# Altium footprint library ADP1740ACPZ-1.8-R7.PcbLib: 1 footprints
Each footprint in its own frame and in the unit in brackets; x right, y up, seen from the top. Pads: shape width x height; smd on the part's side, far side on the other; paste and mask are expansions set on the pad; w line width, h text height; cw(c..) or ccw(c..) is an arc to the next point about the centre after c.
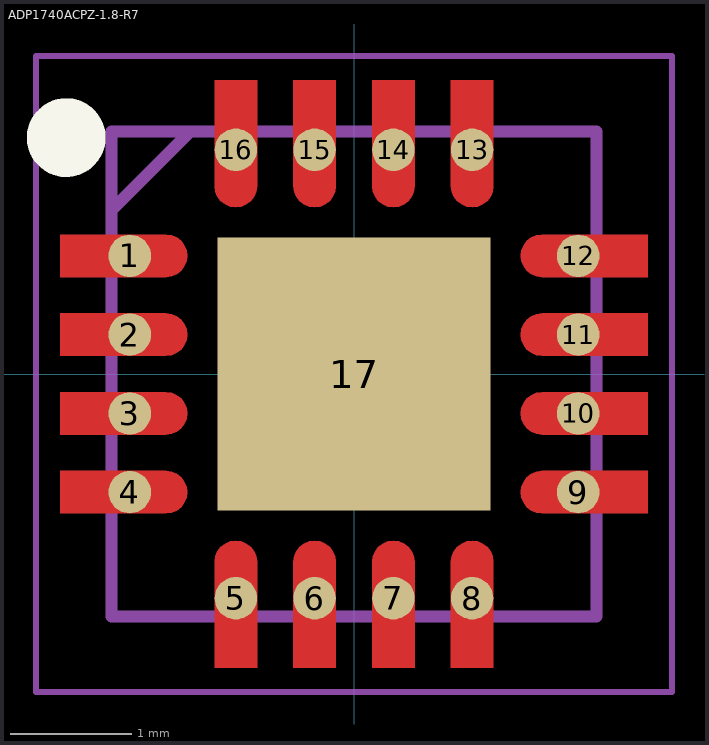
[diagram p0: the footprint, top view; thin cyan lines are the x and y axes]

## ADP1740ACPZ-1.8-R7 [mm]
pads (17):
  round 0.35 smd: 1(-1.85,0.975) 2(-1.85,0.325) 3(-1.85,-0.325) 4(-1.85,-0.975) 5(-0.975,-1.85) 6(-0.325,-1.85) 7(0.325,-1.85) 8(0.975,-1.85) 9(1.85,-0.975) 10(1.85,-0.325) 11(1.85,0.325) 12(1.85,0.975) 13(0.975,1.85) 14(0.325,1.85) 15(-0.325,1.85) 16(-0.975,1.85)
  rect 2.25x2.25 smd: 17(0,0)
L1-Top Layer:
  region: 0.8,-2.425 0.8,-1.55 0.806,-1.505 0.823,-1.462 0.851,-1.426 0.887,-1.398 0.93,-1.381 0.975,-1.375 1.02,-1.381 1.062,-1.398 1.099,-1.426 1.127,-1.462 1.144,-1.505 1.15,-1.55 1.15,-2.425
  region: -0.8,2.425 -0.8,1.55 -0.806,1.505 -0.823,1.462 -0.851,1.426 -0.887,1.398 -0.93,1.381 -0.975,1.375 -1.02,1.381 -1.062,1.398 -1.099,1.426 -1.127,1.462 -1.144,1.505 -1.15,1.55 -1.15,2.425
  region: -0.15,2.425 -0.15,1.55 -0.156,1.505 -0.173,1.462 -0.201,1.426 -0.238,1.398 -0.28,1.381 -0.325,1.375 -0.37,1.381 -0.413,1.398 -0.449,1.426 -0.477,1.462 -0.494,1.505 -0.5,1.55 -0.5,2.425
  region: 0.5,2.425 0.5,1.55 0.494,1.505 0.477,1.462 0.449,1.426 0.413,1.398 0.37,1.381 0.325,1.375 0.28,1.381 0.238,1.398 0.201,1.426 0.173,1.462 0.156,1.505 0.15,1.55 0.15,2.425
  region: 1.15,2.425 1.15,1.55 1.144,1.505 1.127,1.462 1.099,1.426 1.062,1.398 1.02,1.381 0.975,1.375 0.93,1.381 0.887,1.398 0.851,1.426 0.823,1.462 0.806,1.505 0.8,1.55 0.8,2.425
  region: 2.425,0.8 1.55,0.8 1.505,0.806 1.462,0.823 1.426,0.851 1.398,0.887 1.381,0.93 1.375,0.975 1.381,1.02 1.398,1.062 1.426,1.099 1.462,1.127 1.505,1.144 1.55,1.15 2.425,1.15
  region: 2.425,0.15 1.55,0.15 1.505,0.156 1.462,0.173 1.426,0.201 1.398,0.238 1.381,0.28 1.375,0.325 1.381,0.37 1.398,0.413 1.426,0.449 1.462,0.477 1.505,0.494 1.55,0.5 2.425,0.5
  region: 2.425,-0.5 1.55,-0.5 1.505,-0.494 1.462,-0.477 1.426,-0.449 1.398,-0.413 1.381,-0.37 1.375,-0.325 1.381,-0.28 1.398,-0.238 1.426,-0.201 1.462,-0.173 1.505,-0.156 1.55,-0.15 2.425,-0.15
  region: 2.425,-1.15 1.55,-1.15 1.505,-1.144 1.462,-1.127 1.426,-1.099 1.398,-1.062 1.381,-1.02 1.375,-0.975 1.381,-0.93 1.398,-0.887 1.426,-0.851 1.462,-0.823 1.505,-0.806 1.55,-0.8 2.425,-0.8
  region: 0.15,-2.425 0.15,-1.55 0.156,-1.505 0.173,-1.462 0.201,-1.426 0.238,-1.398 0.28,-1.381 0.325,-1.375 0.37,-1.381 0.413,-1.398 0.449,-1.426 0.477,-1.462 0.494,-1.505 0.5,-1.55 0.5,-2.425
  region: -0.5,-2.425 -0.5,-1.55 -0.494,-1.505 -0.477,-1.462 -0.449,-1.426 -0.413,-1.398 -0.37,-1.381 -0.325,-1.375 -0.28,-1.381 -0.238,-1.398 -0.201,-1.426 -0.173,-1.462 -0.156,-1.505 -0.15,-1.55 -0.15,-2.425
  region: -1.15,-2.425 -1.15,-1.55 -1.144,-1.505 -1.127,-1.462 -1.099,-1.426 -1.062,-1.398 -1.02,-1.381 -0.975,-1.375 -0.93,-1.381 -0.887,-1.398 -0.851,-1.426 -0.823,-1.462 -0.806,-1.505 -0.8,-1.55 -0.8,-2.425
  region: -2.425,-0.8 -1.55,-0.8 -1.505,-0.806 -1.462,-0.823 -1.426,-0.851 -1.398,-0.887 -1.381,-0.93 -1.375,-0.975 -1.381,-1.02 -1.398,-1.062 -1.426,-1.099 -1.462,-1.127 -1.505,-1.144 -1.55,-1.15 -2.425,-1.15
  region: -2.425,-0.15 -1.55,-0.15 -1.505,-0.156 -1.462,-0.173 -1.426,-0.201 -1.398,-0.238 -1.381,-0.28 -1.375,-0.325 -1.381,-0.37 -1.398,-0.413 -1.426,-0.449 -1.462,-0.477 -1.505,-0.494 -1.55,-0.5 -2.425,-0.5
  region: -2.425,0.5 -1.55,0.5 -1.505,0.494 -1.462,0.477 -1.426,0.449 -1.398,0.413 -1.381,0.37 -1.375,0.325 -1.381,0.28 -1.398,0.238 -1.426,0.201 -1.462,0.173 -1.505,0.156 -1.55,0.15 -2.425,0.15
  region: -2.425,1.15 -1.55,1.15 -1.505,1.144 -1.462,1.127 -1.426,1.099 -1.398,1.062 -1.381,1.02 -1.375,0.975 -1.381,0.93 -1.398,0.887 -1.426,0.851 -1.462,0.823 -1.505,0.806 -1.55,0.8 -2.425,0.8
Top Overlay:
  circle w0.325: c-2.375,1.95 r0.162
Mechanical 15:
  lines w0.1: -2,1.35 -1.35,2 ; -2,-2 -2,2 2,2 2,-2 -2,-2
Mechanical 20:
  lines w0.05: -2.625,-2.625 -2.625,2.625 2.625,2.625 2.625,-2.625 -2.625,-2.625
3D body "ADP1740ACPZ-1.8-R7.stp": height 5.8, standoff -4.65, extent -10,-3.376 10,3.376